# EAGLE library part SI7905DN (library transistor-fet)
Dual P-Channel MOSFET
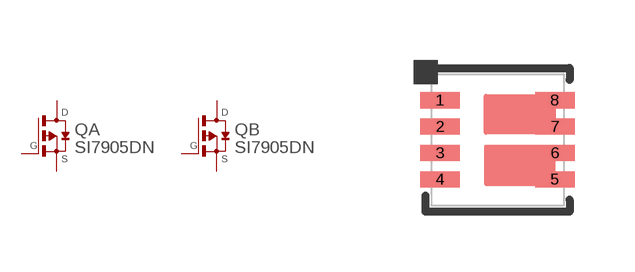
[diagram p23: symbol with the pads of POWERPAK-1212-8D; footprint POWERPAK-1212-8D]

Designator prefix Q; gates A=EMOS-PD B=EMOS-PD

## SI7905DN  [POWERPAK-1212-8D]
1  A:S  pas
2  A:G  pas
3  B:S  pas
4  B:G  pas
5  B:D  pas
6  B:D  pas
7  A:D  pas
8  A:D  pas

## Footprint POWERPAK-1212-8D (pad centres in mm)
PowerPAK 1212-8 Dual
smd 0.99 x 0.405: 1 -1.435,0.99; 2 -1.435,0.33; 3 -1.435,-0.33; 4 -1.435,-0.99; 5 1.435,-0.99; 6 1.435,-0.33; 7 1.435,0.33; 8 1.435,0.99